# Altium schematic symbol library AT24C04C-SSHM-T.SchLib: 1 symbol
Pins are listed as number, name and electrical type; pins without a type are passive.

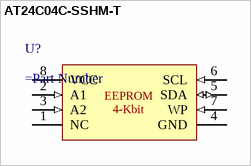
[diagram p0: symbol AT24C04C-SSHM-T]

## AT24C04C-SSHM-T
designator U?
=Description
pins: 1 NC, 2 A1 (in), 3 A2 (in), 4 GND (power), 5 SDA (io), 6 SCL (in), 7 WP (in), 8 VCC (power)
text: EEPROM / 4-Kbit